# Altium footprint library lib_interfet.PcbLib: 1 footprints
Each footprint in its own frame and in the unit in brackets; x right, y up, seen from the top. Pads: shape width x height; smd on the part's side, far side on the other; paste and mask are expansions set on the pad; w line width, h text height; cw(c..) or ccw(c..) is an arc to the next point about the centre after c.
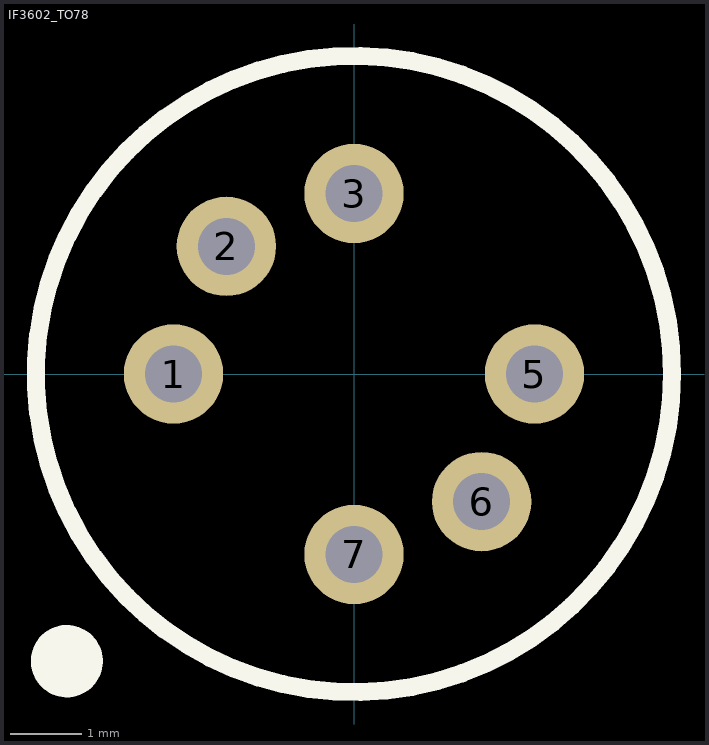
[diagram p0: the footprint, top view; thin cyan lines are the x and y axes]

## IF3602_TO78 [mm]
pads (6):
  round 1.4 hole 0.8 unplated: 1(-2.54,0) 2(-1.796,1.796) 3(0,2.54) 5(2.54,0) 6(1.796,-1.796) 7(0,-2.54)
Top Overlay:
  circle w0.254: c0,0 r4.477
  circle w0.508: c-4.041,-4.041 r0.254
3D body "if3602_to78.step": height 6.42, standoff -10.72, extent -4.477,-4.477 4.477,4.476